# Altium footprint library 传感器.PcbLib: 3 footprints
Each footprint in its own frame and in the unit in brackets; x right, y up, seen from the top. Pads: shape width x height; smd on the part's side, far side on the other; paste and mask are expansions set on the pad; w line width, h text height; cw(c..) or ccw(c..) is an arc to the next point about the centre after c.
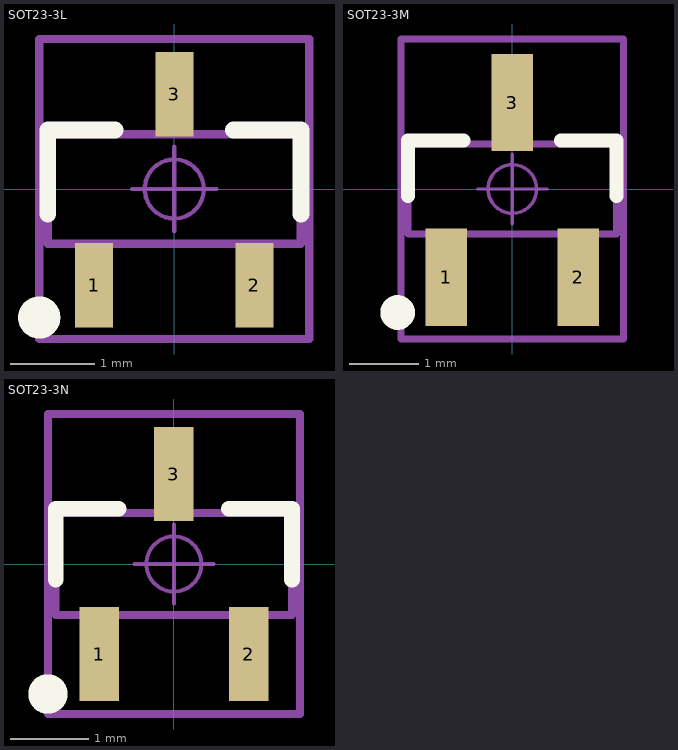
[diagram p0: the footprints below, top view; thin cyan lines are the x and y axes]

## SOT23-3L [mm] "3x1.3x1mm(长宽高)"
height 1.1
pads (3):
  rect 0.45x1 smd: 1(-0.95,-1.143) 2(0.95,-1.143) 3(0,1.125)
Top Overlay:
  circle w0.25: c-1.6,-1.524 r0.125
  lines w0.2: -1.5,-0.3 -1.5,0.7 -0.7,0.7 ; 0.7,0.7 1.5,0.7 1.5,-0.3
Mechanical 13:
  lines w0.1: -1.5,-0.65 1.5,-0.65 1.5,0.65 -1.5,0.65 -1.5,-0.65
Mechanical 15:
  circle w0.05: c0,0 r0.35
  lines w0.05: -0.5,0 0.5,0 ; 0,-0.5 0,0.5
  lines w0.1: -1.6,-1.778 1.6,-1.778 1.6,1.778 -1.6,1.778 -1.6,-1.778
3D body "SOT23-3.STEP": height 1.05, standoff 0, extent -1.5,-1.2 1.5,1.2

## SOT23-3M [mm] "3x1.3x1mm(长宽高)"
height 1.1
pads (3):
  rect 0.6x1.4 smd: 1(-0.95,-1.27) 2(0.95,-1.27) 3(0,1.244)
Top Overlay:
  circle w0.25: c-1.651,-1.778 r0.125
  lines w0.2: -1.5,-0.1 -1.5,0.7 -0.7,0.7 ; 0.7,0.7 1.5,0.7 1.5,-0.1
Mechanical 13:
  lines w0.1: -1.5,-0.65 -1.5,0.65 1.5,0.65 1.5,-0.65 -1.5,-0.65
Mechanical 15:
  circle w0.05: c0,0 r0.35
  lines w0.05: -0.5,0 0.5,0 ; 0,-0.5 0,0.5
  lines w0.1: -1.6,-2.159 -1.6,2.159 1.6,2.159 1.6,-2.159 -1.6,-2.159
3D body "SOT23-3.STEP": height 1.05, standoff 0, extent -1.5,-1.2 1.5,1.2

## SOT23-3N [mm] "3x1.3x1mm(长宽高)"
height 1.1
pads (3):
  rect 0.5x1.2 smd: 1(-0.95,-1.143) 2(0.95,-1.143) 3(0,1.143)
Top Overlay:
  circle w0.25: c-1.6,-1.651 r0.125
  lines w0.2: -1.501,-0.2 -1.501,0.7 -0.701,0.7 ; 0.699,0.7 1.499,0.7 1.499,-0.2
Mechanical 13:
  lines w0.1: -1.5,-0.65 -1.5,0.65 1.5,0.65 1.5,-0.65 -1.5,-0.65
Mechanical 15:
  circle w0.05: c0,0 r0.35
  lines w0.05: -0.5,0 0.5,0 ; 0,-0.5 0,0.5
  lines w0.1: -1.6,-1.905 -1.6,1.905 1.6,1.905 1.6,-1.905 -1.6,-1.905
3D body "SOT23-3.STEP": height 1.05, standoff 0, extent -1.5,-1.2 1.5,1.2